# Altium schematic symbol library NRF52840-QFAA-R7.SchLib: 1 symbol
Pins are listed as number, name and electrical type; pins without a type are passive.

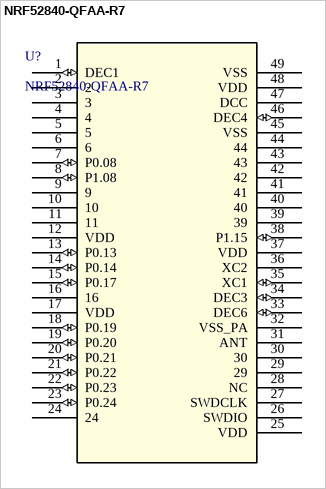
[diagram p0: symbol NRF52840-QFAA-R7]

## NRF52840-QFAA-R7
designator U?
Description; Manufacturer_Name: Nordic Semiconductor; Copyright: Copyright (C) 2025 Ultra Librarian. All rights reserved.; Manufacturer_Part_Number: NRF52840-QFAA-R7; RefDes: RefDes; Type: Type
footprint QFN48_NRF52840-QFAA-R7_NOR
pins: 1 DEC1 (io), 2, 3, 4, 5, 6, 7 P0.08 (io), 8 P1.08 (io), 9, 10, 11, 12 VDD (power), 13 P0.13 (io), 14 P0.14 (io), 15 P0.17 (io), 16, 17 VDD (power), 18 P0.19 (io), 19 P0.20 (io), 20 P0.21 (io), 21 P0.22 (io), 22 P0.23 (io), 23 P0.24 (io), 24, 25 VDD (power), 26 SWDIO, 27 SWDCLK, 28 NC, 29, 30, 31 ANT, 32 VSS_PA (power), 33 DEC6 (io), 34 DEC3 (io), 35 XC1 (io), 36 XC2, 37 VDD (power), 38 P1.15 (io), 39, 40, 41, 42, 43, 44, 45 VSS (power), 46 DEC4 (io), 47 DCC, 48 VDD (power), 49 VSS (power)